# Altium footprint library LED-DIODE.PcbLib: 29 footprints (part 2 of 2)
Each footprint in its own frame and in the unit in brackets; x right, y up, seen from the top. Pads: shape width x height; smd on the part's side, far side on the other; paste and mask are expansions set on the pad; w line width, h text height; cw(c..) or ccw(c..) is an arc to the next point about the centre after c.
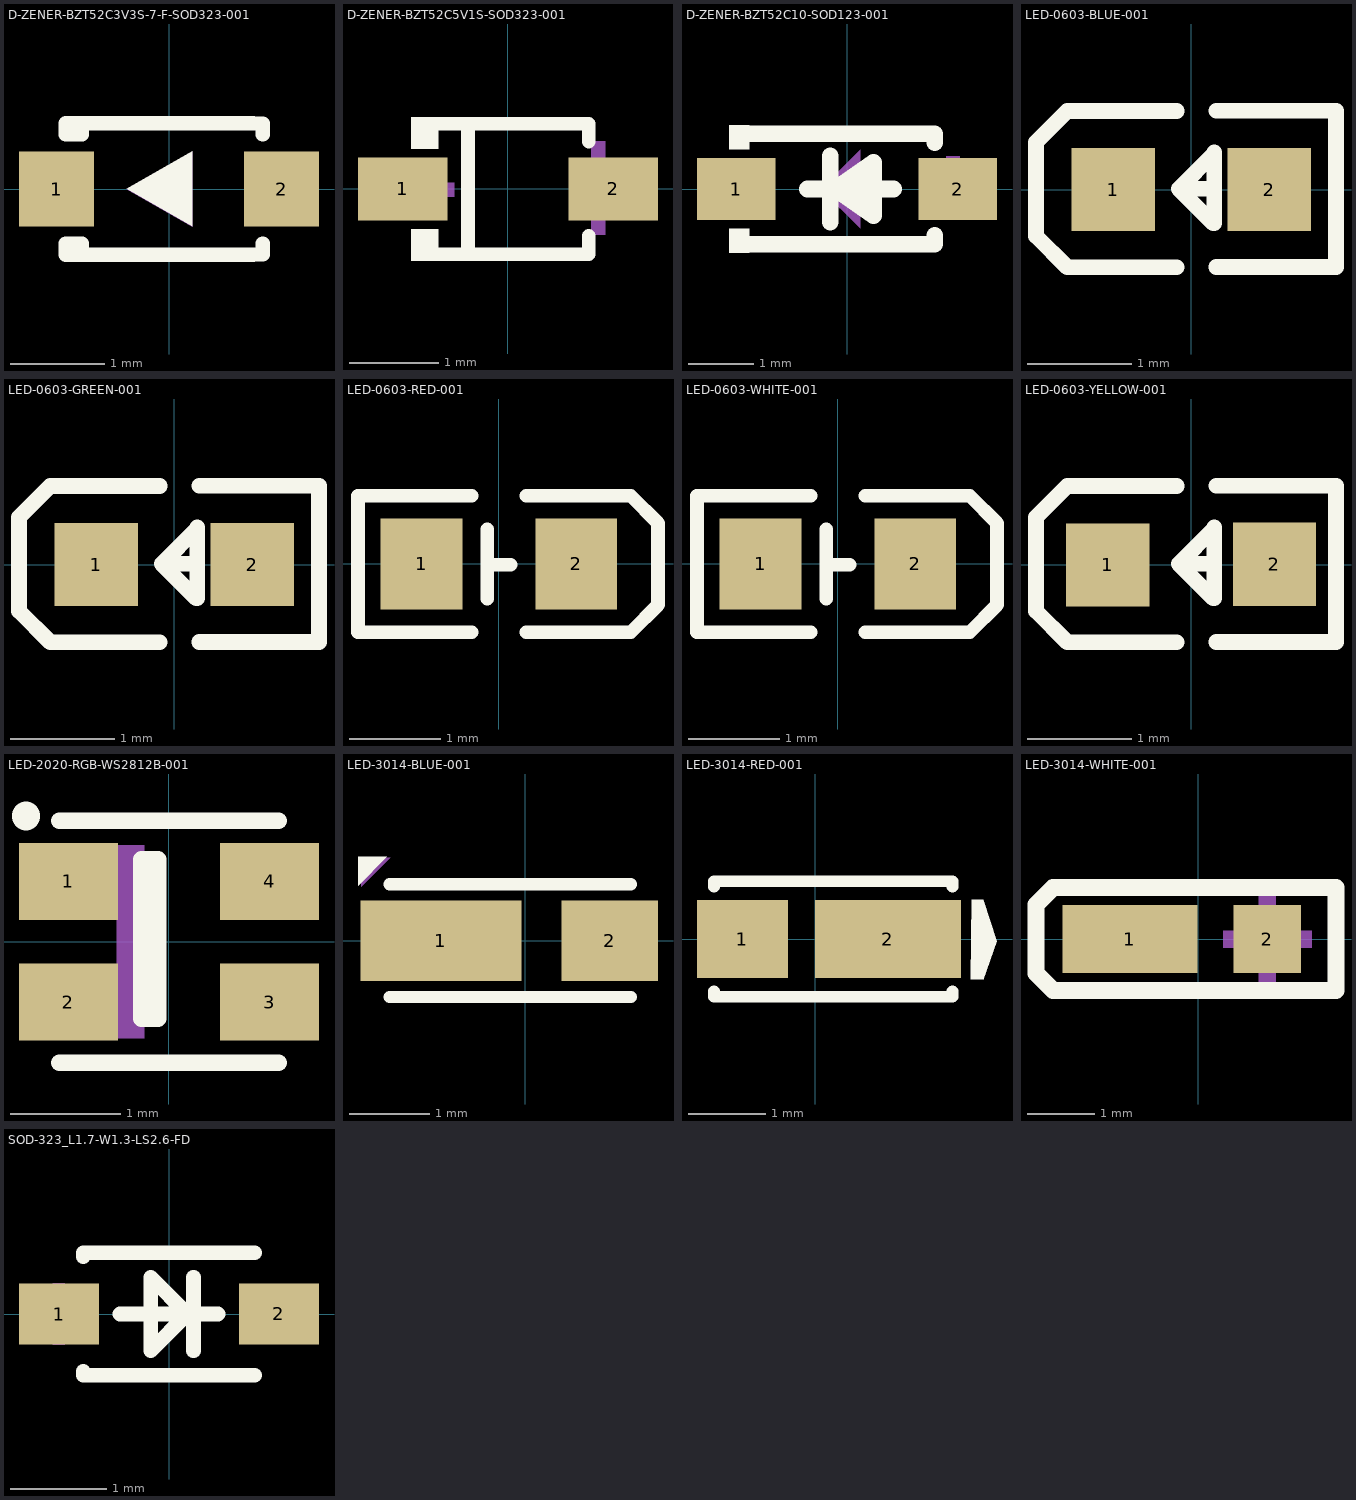
[diagram p1: the footprints below, top view; thin cyan lines are the x and y axes]

## D-ZENER-BZT52C3V3S-7-F-SOD323-001 [mm] "DIODE ZENER 3.3V 300mW SOD-323(SC-90)"
pads (2):
  rect 0.8x0.8 smd paste+0 mask+0.051: 1(-1.2,0) 2(1.2,0)
Top Overlay:
  region: -0.45,0 0.25,0.4 0.25,-0.4
  lines w0.152: -1.014,-0.7 -1.014,-0.58 ; -1.014,0.58 -1.014,0.7 ; -0.927,-0.7 -0.927,-0.58 -1.1,-0.58 -1.1,-0.7 0.9,-0.7 1,-0.7 1,-0.58 ; -0.927,0.7 -0.927,0.58 -1.1,0.58 -1.1,0.7 0.9,0.7 1,0.7 1,0.58
Mechanical 15:
  region: -0.45,0 0.25,0.4 0.25,-0.4
  region: 0.9,0.09 1.5,0.09 1.5,-0.09 0.9,-0.09
  region: 1.11,-0.3 1.11,0.3 1.29,0.3 1.29,-0.3
  region: -1.5,0.09 -0.9,0.09 -0.9,-0.09 -1.5,-0.09
3D body "D-ZENER-BZT52C3V3S-7-F-SOD323-001.step": height 0.93, standoff -0.02, extent -1.301,-0.625 1.199,0.625

## D-ZENER-BZT52C5V1S-SOD323-001 [mm] "DIODE ZENER 5.1V 200mW SOD-323%3D"
pads (2):
  rect 1x0.7 smd paste+0 mask+0.051: 1(-1.173,0) 2(1.173,0)
Top Overlay:
  region: -0.775,-0.802 -0.775,-0.45 -1.08,-0.45 -1.08,-0.802
  region: -0.775,0.802 -0.775,0.45 -1.08,0.45 -1.08,0.802
  lines w0.152: -0.851,-0.726 0.901,-0.726 0.901,-0.52 ; -0.851,0.726 0.901,0.726 0.901,0.53 ; -0.447,-0.726 -0.447,0.726
Mechanical 15:
  region: 1.083,0.53 1.083,-0.51 0.927,-0.51 0.927,0.53
  region: 1.315,0.09 1.315,-0.066 0.691,-0.066 0.691,0.09
  region: -1.225,0.07 -1.225,-0.086 -0.601,-0.086 -0.601,0.07
3D body "D-ZENER-BZT52C3V3S-7-F-SOD323-001.step": height 0.91, standoff -0.04, extent -1.25,-0.625 1.25,0.625

## D-ZENER-BZT52C10-SOD123-001 [mm] "DIODE ZENER 10V 500mW SOD-123"
pads (2):
  rect 1.2x0.95 smd paste+0 mask+0.051: 1(-1.7,0) 2(1.7,0)
Top Overlay:
  region: 0.406,-0.406 0.406,0.406 -0.178,0
  region: -1.502,0.977 -1.502,0.607 -1.806,0.607 -1.806,0.977
  region: -1.502,-0.977 -1.502,-0.607 -1.806,-0.607 -1.806,-0.977
  lines w0.254: -1.644,0.849 -1.643,0.85 -1.346,0.85 1.346,0.85 1.346,0.706 ; -1.639,-0.849 -1.638,-0.85 -1.346,-0.85 1.346,-0.85 1.346,-0.706 ; -0.61,0 -0.28,0 ; -0.254,-0.508 -0.254,0.508 ; 0.406,0 0.72,0 ; -0.178,0 0.406,0.406 0.406,-0.406 -0.178,0
Mechanical 15:
  region: 1.19,0.212 2.032,0.212 2.032,0.005 1.189,0.005
  region: 1.525,-0.338 1.525,0.504 1.732,0.504 1.732,-0.339
  region: -2.042,0.124 -1.2,0.124 -1.2,-0.083 -2.042,-0.083
  region: -0.4,0 0.2,-0.6 0.2,0.6
3D body "D-ZENER-BZT52C10-SOD123-001.step": height 1.43, standoff -0.02, extent -1.925,-0.85 1.925,0.85

## LED-0603-BLUE-001 [mm] "LED BLUE 0603 SMD"
pads (2):
  rect 0.8x0.8 smd paste+0 mask+0.051: 1(-0.749,0) 2(0.749,0)
Top Overlay:
  lines w0.15: -0.14,-0.746 -1.19,-0.746 -1.49,-0.446 -1.49,-0.346 -1.49,0.354 -1.49,0.454 -1.19,0.754 -0.14,0.754 ; 0.22,0.007 -0.12,0.007 ; 0.24,-0.744 1.39,-0.744 ; 0.24,0.757 1.39,0.757 1.39,-0.723 ; -0.12,0.007 0.22,0.347 0.22,0.356 0.22,-0.324 0.21,-0.324 -0.12,0.007
Mechanical 15:
  region: 0.529,0.068 1.069,0.068 1.069,-0.062 0.529,-0.062
  region: 0.735,-0.267 0.735,0.273 0.865,0.273 0.865,-0.267
  region: -1.07,0.061 -0.53,0.061 -0.53,-0.069 -1.07,-0.069
3D body "LED-0603-BLUE-001.step": height 0.55, standoff -0.01, extent -0.81,-0.41 0.81,0.41

## LED-0603-GREEN-001 [mm] "LED YELLOW GREEN WATER CLEAR 0603 SMD"
pads (2):
  rect 0.8x0.8 smd paste+0 mask+0.051: 1(-0.749,0) 2(0.749,0)
Top Overlay:
  lines w0.15: -0.14,-0.746 -1.19,-0.746 -1.49,-0.446 -1.49,-0.346 -1.49,0.354 -1.49,0.454 -1.19,0.754 -0.14,0.754 ; 0.22,0.007 -0.12,0.007 ; 0.24,-0.744 1.39,-0.744 ; 0.24,0.757 1.39,0.757 1.39,-0.723 ; -0.12,0.007 0.21,-0.324 0.22,-0.324 0.22,0.356 0.22,0.347 -0.12,0.007
Mechanical 15:
  region: -1.07,0.061 -0.53,0.061 -0.53,-0.069 -1.07,-0.069
  region: 0.735,-0.267 0.735,0.273 0.865,0.273 0.865,-0.267
  region: 0.529,0.068 1.069,0.068 1.069,-0.062 0.529,-0.062
3D body "LED-0603-BLUE-001.step": height 0.55, standoff -0.01, extent -0.81,-0.41 0.81,0.41

## LED-0603-RED-001 [mm] "LED RED 0603 SMD"
pads (2):
  rect 0.9x1 smd paste+0 mask+0.051: 1(-0.85,0) 2(0.85,0)
Top Overlay:
  lines w0.15: -1.55,-0.75 -0.3,-0.75 ; -1.55,-0.75 -1.55,0.73 ; -1.55,0.75 -0.3,0.75 ; -0.127,-0.381 -0.127,0.381 ; -0.127,-0.006 0.127,-0.006 ; 0.3,-0.75 1.45,-0.75 1.75,-0.45 1.75,-0.35 1.75,0.35 1.75,0.45 1.45,0.75 0.3,0.75
Mechanical 15:
  region: -0.865,-0.273 -0.865,0.327 -0.715,0.327 -0.715,-0.273
  region: 0.6,0.1 1.2,0.1 1.2,-0.05 0.6,-0.05
  region: -1.1,0.1 -0.5,0.1 -0.5,-0.05 -1.1,-0.05
3D body "LED-0603-BLUE-001.step": height 0.55, standoff -0.01, extent -0.81,-0.435 0.81,0.385

## LED-0603-WHITE-001 [mm] "LED WHITE YELLOW LENS 0603 SMD"
pads (2):
  rect 0.9x1 smd paste+0 mask+0.051: 1(-0.85,0) 2(0.85,0)
Top Overlay:
  lines w0.15: -1.55,-0.75 -0.3,-0.75 ; -1.55,-0.75 -1.55,0.73 ; -1.55,0.75 -0.3,0.75 ; -0.127,-0.381 -0.127,0.381 ; -0.127,-0.006 0.127,-0.006 ; 0.3,-0.75 1.45,-0.75 1.75,-0.45 1.75,-0.35 1.75,0.35 1.75,0.45 1.45,0.75 0.3,0.75
Mechanical 15:
  region: -1.1,0.1 -0.5,0.1 -0.5,-0.05 -1.1,-0.05
  region: 0.6,0.1 1.2,0.1 1.2,-0.05 0.6,-0.05
  region: -0.865,-0.273 -0.865,0.327 -0.715,0.327 -0.715,-0.273
3D body "LED-0603-BLUE-001.step": height 0.55, standoff -0.01, extent -0.81,-0.435 0.81,0.385

## LED-0603-YELLOW-001 [mm] "LED YELLOW 0603 SMD"
pads (2):
  rect 0.8x0.8 smd paste+0 mask+0.051: 1(-0.799,-0.004) 2(0.799,0.004)
Top Overlay:
  lines w0.15: -0.14,-0.746 -1.19,-0.746 -1.49,-0.446 -1.49,-0.346 -1.49,0.354 -1.49,0.454 -1.19,0.754 -0.14,0.754 ; 0.22,0.007 -0.12,0.007 ; 0.24,-0.744 1.39,-0.744 ; 0.24,0.757 1.39,0.757 1.39,-0.723 ; -0.12,0.007 0.21,-0.324 0.22,-0.324 0.22,0.356 0.22,0.347 -0.12,0.007
Mechanical 15:
  region: -1.07,0.061 -0.53,0.061 -0.53,-0.069 -1.07,-0.069
  region: 0.735,-0.267 0.735,0.273 0.865,0.273 0.865,-0.267
  region: 0.529,0.068 1.069,0.068 1.069,-0.062 0.529,-0.062
3D body "LED-0603-BLUE-001.step": height 0.55, standoff -0.01, extent -0.81,-0.41 0.81,0.41

## LED-2020-RGB-WS2812B-001 [mm] "Intelligent control LED integrated light source"
pads (4):
  rect 0.9x0.7 smd paste+0 mask+0.051: 1(-0.915,0.55) 2(-0.915,-0.55) 3(0.915,-0.55) 4(0.915,0.55)
Top Overlay:
  lines w0.152: -1,-1.1 1,-1.1 ; -1,1.1 1,1.1 ; -0.25,-0.7 -0.25,0.75 -0.1,0.75 -0.1,-0.65 -0.1,-0.7 -0.25,-0.7
  lines w0.254: -1.3,1.138 -1.3,1.15
Mechanical 15:
  region: 0.925,-0.75 0.925,-0.7 0.975,-0.7 0.975,-0.4 0.925,-0.4 0.925,-0.35 1.075,-0.35 1.075,-0.4 1.025,-0.4 1.025,-0.7 1.075,-0.7 1.075,-0.75
  region: 0.55,-0.35 0.55,-0.75 0.7,-0.75 0.75,-0.75 0.8,-0.7 0.8,-0.4 0.75,-0.35 0.65,-0.35 0.65,-0.4 0.75,-0.4 0.75,-0.7 0.6,-0.7 0.6,-0.35
  region: -1.175,0.7 -1.175,0.3 -1.025,0.3 -0.975,0.3 -0.925,0.35 -0.925,0.65 -0.975,0.7 -1.075,0.7 -1.075,0.65 -0.975,0.65 -0.975,0.35 -1.125,0.35 -1.125,0.7
  region: -0.8,0.7 -0.85,0.65 -0.85,0.35 -0.8,0.3 -0.6,0.3 -0.55,0.35 -0.55,0.65 -0.6,0.7 -0.7,0.7 -0.7,0.65 -0.6,0.65 -0.6,0.35 -0.8,0.35 -0.8,0.65 -0.75,0.65 -0.75,0.7
  region: 0.95,0.75 0.95,0.45 1.1,0.45 1.1,0.35 1.15,0.35 1.15,0.45 1.25,0.45 1.25,0.5 1.15,0.5 1.15,0.65 1.1,0.65 1.1,0.5 1,0.5 1,0.75
  region: -0.225,0.88 -0.225,-0.88 -0.475,-0.88 -0.475,0.88
  region: 0.56,0.6 0.8,0.6 0.8,0.55 0.56,0.55
  region: 0.655,0.455 0.655,0.695 0.705,0.695 0.705,0.455
  region: -1.18,-0.665 -0.94,-0.665 -0.94,-0.715 -1.18,-0.715
  region: -0.82,-0.38 -0.58,-0.38 -0.58,-0.56 -0.79,-0.56 -0.79,-0.67 -0.58,-0.67 -0.58,-0.72 -0.82,-0.72 -0.83,-0.72 -0.83,-0.71 -0.83,-0.52 -0.61,-0.52 -0.61,-0.42 -0.83,-0.42 -0.83,-0.38
3D body "LED-2020-RGB-WS2812B-001.step": height 0.82, standoff -0.02, extent -1,-1.01 1,1

## LED-3014-BLUE-001 [mm] "LED BLUE WATER CLEAR SMD"
pads (2):
  rect 2x1 smd paste+0 mask+0.051: 1(-1.05,0)
  rect 1.2x1 smd paste+0 mask+0.051: 2(1.05,0)
Top Overlay:
  region: -2.08,0.68 -2.08,1.04 -1.72,1.04
  lines w0.152: -1.69,0.7 1.31,0.7 ; -1.687,-0.7 1.313,-0.7
Mechanical 15:
  region: 0.86,-0.31 0.86,0.31 0.97,0.31 0.97,-0.31
  region: 0.605,0.055 1.225,0.055 1.225,-0.055 0.605,-0.055
  region: -1.24,0.045 -0.62,0.045 -0.62,-0.065 -1.24,-0.065
  region: -2.037,0.67 -2.037,1.03 -1.677,1.03
3D body "LED-3014-BLUE-001.step": height 0.65, standoff -0.01, extent -1.688,-0.663 1.332,0.737

## LED-3014-RED-001 [mm] "LED RED WATER CLEAR SMD"
pads (2):
  rect 1.18x1.01 smd paste+0 mask+0.05: 1(-0.945,0)
  rect 1.9x1.01 smd paste+0 mask+0.05: 2(0.945,0)
Top Overlay:
  region: 2.032,0.508 2.187,0.509 2.363,-0.026 2.184,-0.528 2.028,-0.524 2.025,-0.524
  lines w0.152: -1.315,-0.68 -1.315,-0.75 1.785,-0.75 1.785,-0.68 ; -1.315,0.68 -1.315,0.75 0.185,0.75 ; 0.035,0.75 1.785,0.75 1.785,0.68
Mechanical 15:
  region: -0.77,-0.307 -0.77,0.293 -0.89,0.293 -0.89,-0.007 -0.89,-0.307
  region: -0.53,0.047 -1.13,0.047 -1.13,-0.073 -0.83,-0.073 -0.53,-0.073
  region: 0.621,-0.068 1.221,-0.068 1.221,0.052 0.921,0.052 0.621,0.052
3D body "LED-3014-RED-001.step": height 0.8, standoff -0.01, extent -1.322,-0.71 1.678,0.7

## LED-3014-WHITE-001 [mm] "LED WHITE FROSTED YELLOW LENS SMD"
pads (2):
  rect 2x1 smd paste+0 mask+0.051: 1(-1.015,0)
  rect 1x1 smd paste+0 mask+0.051: 2(1.015,0)
Top Overlay:
  lines w0.254: -2.405,0.508 -2.151,0.762 ; -2.404,0.508 -2.404,-0.508 -2.15,-0.762 2.036,-0.762 2.036,0.762 -2.15,0.762
Mechanical 15:
  region: 0.366,-0.13 0.366,0.12 1.676,0.12 1.676,-0.13
  region: 1.145,-0.649 0.895,-0.649 0.895,0.661 1.145,0.661
  region: -1.664,-0.13 -1.664,0.12 -0.354,0.12 -0.354,-0.13
3D body "LED-3014-BLUE-001.step": height 0.65, standoff -0.01, extent -1.739,-0.751 1.281,0.649

## SOD-323_L1.7-W1.3-LS2.6-FD [mm] "1 Independent 3.1V~3.5V 3.3V SOD-323 Single Zener Diodes RoHS"
pads (2):
  rect 0.83x0.63 smd paste+0 mask+0.05: 1(-1.14,0) 2(1.14,0)
Top Overlay:
  lines w0.152: -0.889,-0.595 -0.889,-0.635 0.889,-0.635 ; -0.889,0.595 -0.889,0.635 0.889,0.635 ; -0.508,0 0.508,0 ; 0.254,-0.381 0.254,0.381 ; -0.191,-0.381 -0.191,0.381 0.191,0 -0.191,-0.381
Mechanical 15:
  region: 1.46,-0.064 1.46,0.063 0.826,0.063 0.826,-0.064
  region: -0.826,-0.064 -0.826,0.063 -1.079,0.063 -1.079,0.317 -1.206,0.317 -1.206,0.063 -1.46,0.063 -1.46,-0.064 -1.206,-0.064 -1.206,-0.318 -1.079,-0.318 -1.079,-0.064
3D body "D-ZENER-BZT52C3V3S-7-F-SOD323-001.step": height 0.96, standoff 0.01, extent -1.25,-0.625 1.25,0.625